# EAGLE library part B6P-VH (library jst-vh)
Wire-to-Board 3.96mm pitch top mount connector Source: http://www.jst-mfg.com/product/pdf/jpn/VH.pdf http://www.jst-mfg.com/product/detail.php?series=262
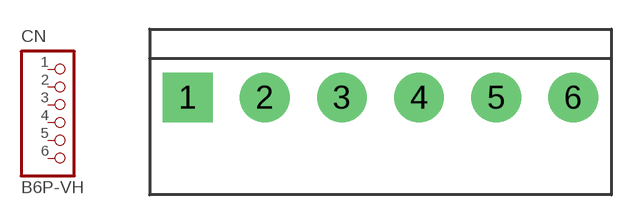
[diagram p0: symbol with the pads of B6P-VH; footprint B6P-VH]

Designator prefix CN

## B6P-VH  [B6P-VH]
1  1  pas
2  2  pas
3  3  pas
4  4  pas
5  5  pas
6  6  pas

## Footprint B6P-VH (pad centres in mm)
drill 1.7 square: 1 -9.9,0
drill 1.7: 2 -5.94,0; 3 -1.98,0; 4 1.98,0; 5 5.94,0; 6 9.9,0